# Altium schematic symbol library ___WIP___.SchLib: 34 symbols
Pins are listed as number, name and electrical type; pins without a type are passive.

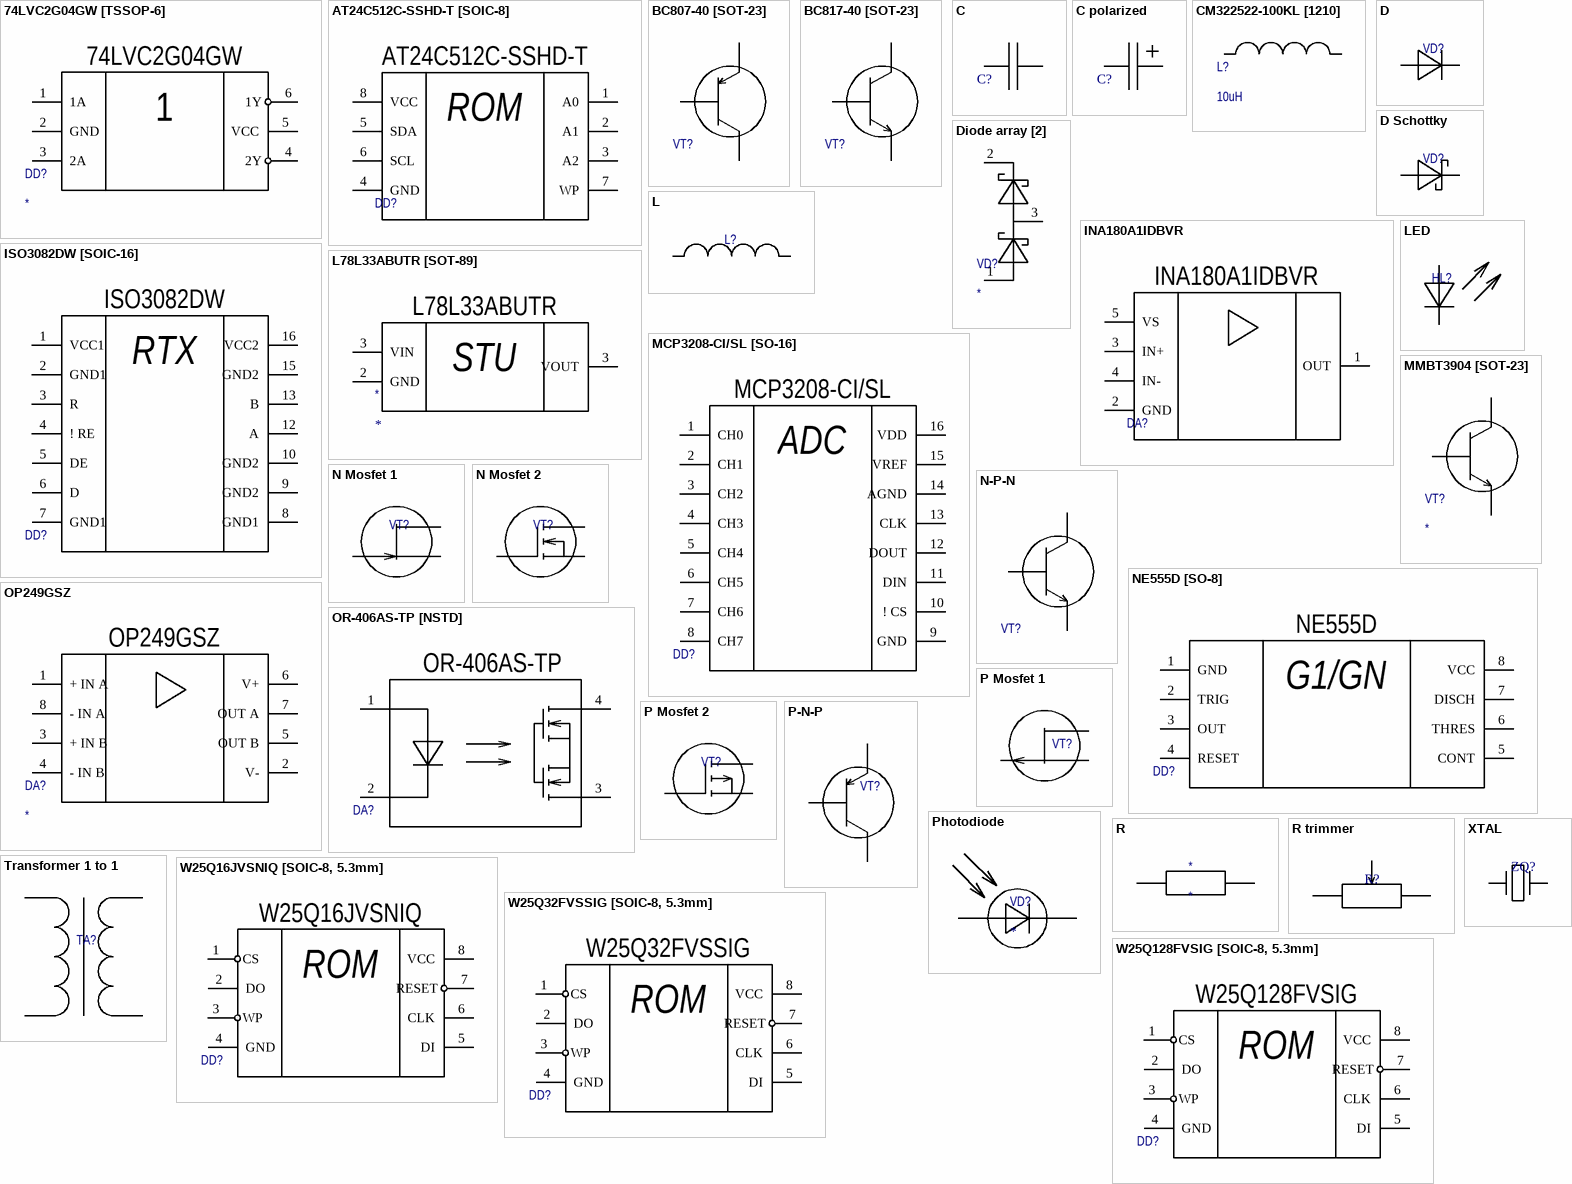
[diagram p0: symbols 74LVC2G04GW [TSSOP-6] to XTAL]

## 74LVC2G04GW [TSSOP-6]
designator DD?
footprint TSOP6_P0.95_2.9X2.75X1.1_L0.4X0.32 (Small Outline Pkg (SOP), 0.95 mm pitch; 6 pin, 2.90 mm L X 1.50 mm W X 1.10 mm H body)
pins: 1 1A, 2 GND, 3 2A, 4 2Y, 5 VCC, 6 1Y
text: 74LVC2G04GW

## AT24C512C-SSHD-T [SOIC-8]
designator DD?  (value not drawn)
EEPROM Memory I2C 512Kb
footprint AT24C512C-SSHD-T [SOIC-8]
pins: 1 A0, 2 A1, 3 A2, 4 GND, 5 SDA, 6 SCL, 7 WP, 8 VCC
text: AT24C512C-SSHD-T; ROM

## BC807-40 [SOT-23]
designator VT?  (value not drawn)
PNP transistor 45V, 0.5А, 0.25W
footprint BC807-40 [SOT-23]
pins: 1, 2, 3

## BC817-40 [SOT-23]
designator VT?  (value not drawn)
NPN transistor 45V, 0.5А, 0.3W
footprint BC817-40 [SOT-23]
pins: 1, 2, 3

## C
designator C?  (value not drawn)
pins: 1, 2

## C polarized
designator C?  (value not drawn)
pins: 1, 2

## CM322522-100KL [1210]
designator L?, comment 10uH
Inductor SMD 10uH
footprint CM322522-100KL [1210]
pins: 1, 2

## D
designator VD?  (value not drawn)
pins: 0, 0

## D Schottky
designator VD?  (value not drawn)
pins: 0, 0

## Diode array [2]
designator VD?
footprint BAS70-04 [SOT-23]
pins: 1, 2, 3

## INA180A1IDBVR
designator DA?  (value not drawn)
pins: 1 OUT, 2 GND, 3 IN+, 4 IN-, 5 VS

## ISO3082DW [SOIC-16]
designator DD?  (value not drawn)
RS-485 & RS-422 isolated transceiver
footprint ISO3082DWR [SOIC-16]
pins: 1 VCC1, 2 GND1, 3 R, 4 ! RE, 5 DE, 6 D, 7 GND1, 8 GND1, 9 GND2, 10 GND2, 12 A, 13 B, 15 GND2, 16 VCC2
text: ISO3082DW; RTX

## L
designator L?  (value not drawn)
pins: 1, 2

## L78L33ABUTR [SOT-89]
designator *
pins: 2 GND, 3 VIN, 3 VOUT
text: L78L33ABUTR; STU

## LED
designator HL?  (value not drawn)
footprint LED [0603]
pins: 1, 2

## MCP3208-CI/SL [SO-16]
designator DD?  (value not drawn)
ADC 8-channels 12bit 8kS/s
footprint MCP3208-CI/SL [SO-16]
pins: 1 CH0, 2 CH1, 3 CH2, 4 CH3, 5 CH4, 6 CH5, 7 CH6, 8 CH7, 9 GND, 10 ! CS, 11 DIN, 12 DOUT, 13 CLK, 14 AGND, 15 VREF, 16 VDD
text: MCP3208-CI/SL; ADC

## MMBT3904 [SOT-23]
designator VT?
NPN transistor 40V, 0.2А, 0.3W
footprint MMBT3904 [SOT-23]
pins: 1, 2, 3

## N Mosfet 1
designator VT?  (value not drawn)
pins: 0, 1, 2

## N Mosfet 2
designator VT?  (value not drawn)
pins: 0, 1, 2

## N-P-N
designator VT?  (value not drawn)
pins: 1, 2, 3

## NE555D [SO-8]
designator DD?  (value not drawn)
Timer/oscillator
footprint NE555D [SO-8]
pins: 1 GND, 2 TRIG, 3 OUT, 4 RESET, 5 CONT, 6 THRES, 7 DISCH, 8 VCC
text: NE555D; G1/GN

## OP249GSZ
designator DA?
Dual Op Amp
footprint OP249GSZ [SOIC-8]
pins: 1 + IN A, 2 V-, 3 + IN B, 4 - IN B, 5 OUT B, 6 V+, 7 OUT A, 8 - IN A

## OR-406AS-TP [NSTD]
designator DA?  (value not drawn)
footprint OR-406AS-TP [NSTD]
pins: 1, 2, 3, 4
text: OR-406AS-TP

## P Mosfet 1
designator VT?  (value not drawn)
pins: 0, 1, 2

## P Mosfet 2
designator VT?  (value not drawn)
pins: 0, 1, 2

## P-N-P
designator VT?  (value not drawn)
pins: 1, 2, 3

## Photodiode
designator VD?
pins: 0, 0

## R
designator *
pins: 0, 2

## R trimmer
designator R?  (value not drawn)
pins: 0, 1, 2

## Transformer 1 to 1
designator TA?  (value not drawn)
pins: 0, 1, 2, 3

## W25Q16JVSNIQ [SOIC-8, 5.3mm]
designator DD?  (value not drawn)
FLASH memory IC 16Mb (2M x 8) SPI
pins: 1 CS, 2 DO, 3 WP, 4 GND, 5 DI, 6 CLK, 7 RESET, 8 VCC
text: W25Q16JVSNIQ; ROM

## W25Q32FVSSIG [SOIC-8, 5.3mm]
designator DD?  (value not drawn)
FLASH memory IC 32Mb (4M x 8) SPI
footprint W25Q32FVSSIG [SOIC-8, 5.3mm]
pins: 1 CS, 2 DO, 3 WP, 4 GND, 5 DI, 6 CLK, 7 RESET, 8 VCC
text: W25Q32FVSSIG; ROM

## W25Q128FVSIG [SOIC-8, 5.3mm]
designator DD?  (value not drawn)
FLASH memory IC 128Mb (16M x 8) SPI
pins: 1 CS, 2 DO, 3 WP, 4 GND, 5 DI, 6 CLK, 7 RESET, 8 VCC
text: W25Q128FVSIG; ROM

## XTAL
designator ZQ?  (value not drawn)
footprint XTAL_SMD
pins: 1, 2